# EAGLE library part IS66WV51216EBLL (library sjg-ram)
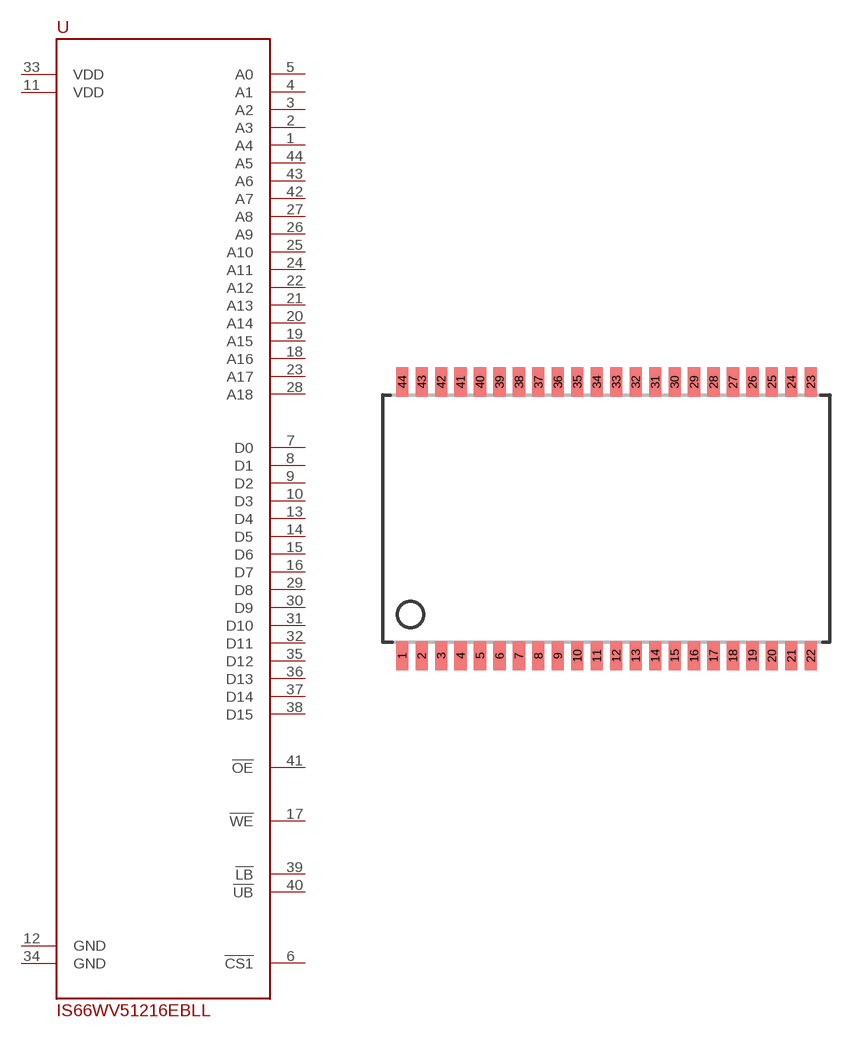
[diagram p1: symbol with the pads of TSOPII-Z44; footprint TSOPII-Z44]

Designator prefix -

## IS66WV51216EBLL  [TSOPII-Z44]
1  A4
2  A3
3  A2
4  A1
5  A0
6  !CS1!
7  D0
8  D1
9  D2
10  D3
11  VDD
12  GND
13  D4
14  D5
15  D6
16  D7
17  !WE!
18  A16
19  A15
20  A14
21  A13
22  A12
23  A17
24  A11
25  A10
26  A9
27  A8
28  A18
29  D8
30  D9
31  D10
32  D11
33  VDD
34  GND
35  D12
36  D13
37  D14
38  D15
39  !LB!
40  !UB!
41  !OE!
42  A7
43  A6
44  A5

## Footprint TSOPII-Z44 (pad centres in mm)
44 PIN TSOP II Z44 Source: CYPRESS cy7c1049cv33_8.pdf
smd 0.5 x 1.2: 1 -8.4,-5.627; 2 -7.6,-5.627; 3 -6.8,-5.627; 4 -6,-5.627; 5 -5.2,-5.627; 6 -4.4,-5.627; 7 -3.6,-5.627; 8 -2.8,-5.627; 9 -2,-5.627; 10 -1.2,-5.627; 11 -0.4,-5.627; 12 0.4,-5.627; 13 1.2,-5.627; 14 2,-5.627; 15 2.8,-5.627; 16 3.6,-5.627; 17 4.4,-5.627; 18 5.2,-5.627; 19 6,-5.627; 20 6.8,-5.627; 21 7.6,-5.627; 22 8.4,-5.627; 23 8.4,5.627; 24 7.6,5.627; 25 6.8,5.627; 26 6,5.627; 27 5.2,5.627; 28 4.4,5.627; 29 3.6,5.627; 30 2.8,5.627; 31 2,5.627; 32 1.2,5.627; 33 0.4,5.627; 34 -0.4,5.627; 35 -1.2,5.627; 36 -2,5.627; 37 -2.8,5.627; 38 -3.6,5.627; 39 -4.4,5.627; 40 -5.2,5.627; 41 -6,5.627; 42 -6.8,5.627; 43 -7.6,5.627; 44 -8.4,5.627